# EAGLE library part LL1538 (library SKAARHOJ)
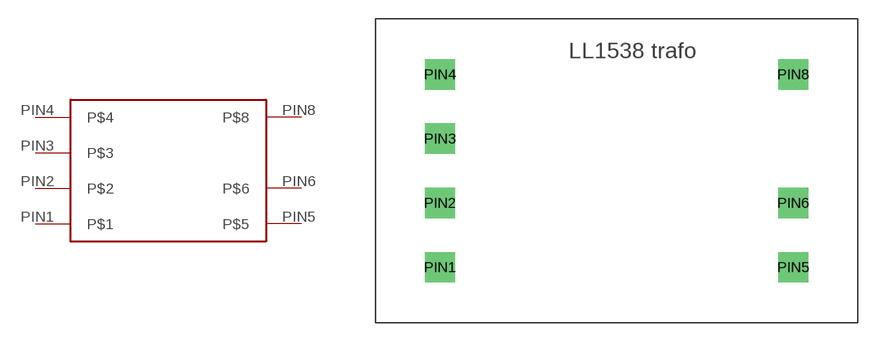
[diagram p63: symbol with the pads of LL1538; footprint LL1538]

Designator prefix -

## LL1538  [LL1538]
PIN1  P$1
PIN2  P$2
PIN3  P$3
PIN4  P$4
PIN5  P$5
PIN6  P$6
PIN8  P$8

## Footprint LL1538 (pad centres in mm)
drill 1.6 square: PIN1 -13.97,-7.62; PIN2 -13.97,-2.54; PIN3 -13.97,2.54; PIN4 -13.97,7.62; PIN5 13.97,-7.62; PIN6 13.97,-2.54; PIN8 13.97,7.62